# EAGLE library part ARDUCAM_MINI (library project-library)
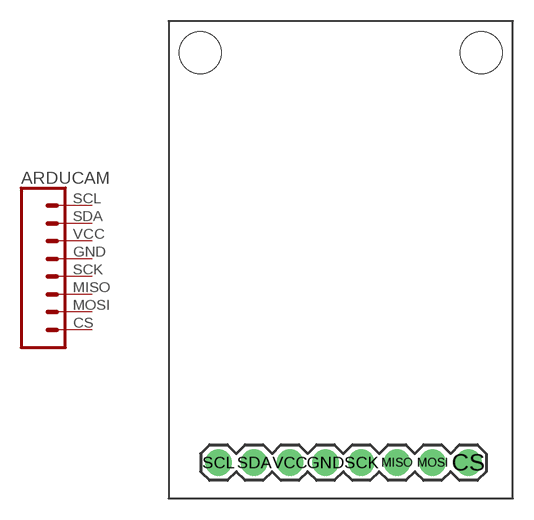
[diagram p1: symbol with the pads of ARDUCAM_MINI; footprint ARDUCAM_MINI]

Designator prefix -

## ARDUCAM_MINI  [ARDUCAM_MINI]
CS  CS  pas
GND  GND  pas
MISO  MISO  pas
MOSI  MOSI  pas
SCK  SCK  pas
SCL  SCL  pas
SDA  SDA  pas
VCC  VCC  pas

## Footprint ARDUCAM_MINI (pad centres in mm)
Plated Through Hole -8 Pin Specifications: Pin count:8 Pin pitch:0.1" Example device(s): CONN_08
drill 1.016 pad 1.88: CS 21.33,2.55; GND 11.17,2.55; MISO 16.25,2.55; MOSI 18.79,2.55; SCK 13.71,2.55; SCL 3.55,2.55; SDA 6.09,2.55; VCC 8.63,2.55
hole 3 at 22.25,31.75
hole 3 at 2.25,31.75